# Altium integrated library Analog Devices Data Converters Digital-to-Analog Converters.IntLib: 2231 symbols (part 158 of 181)
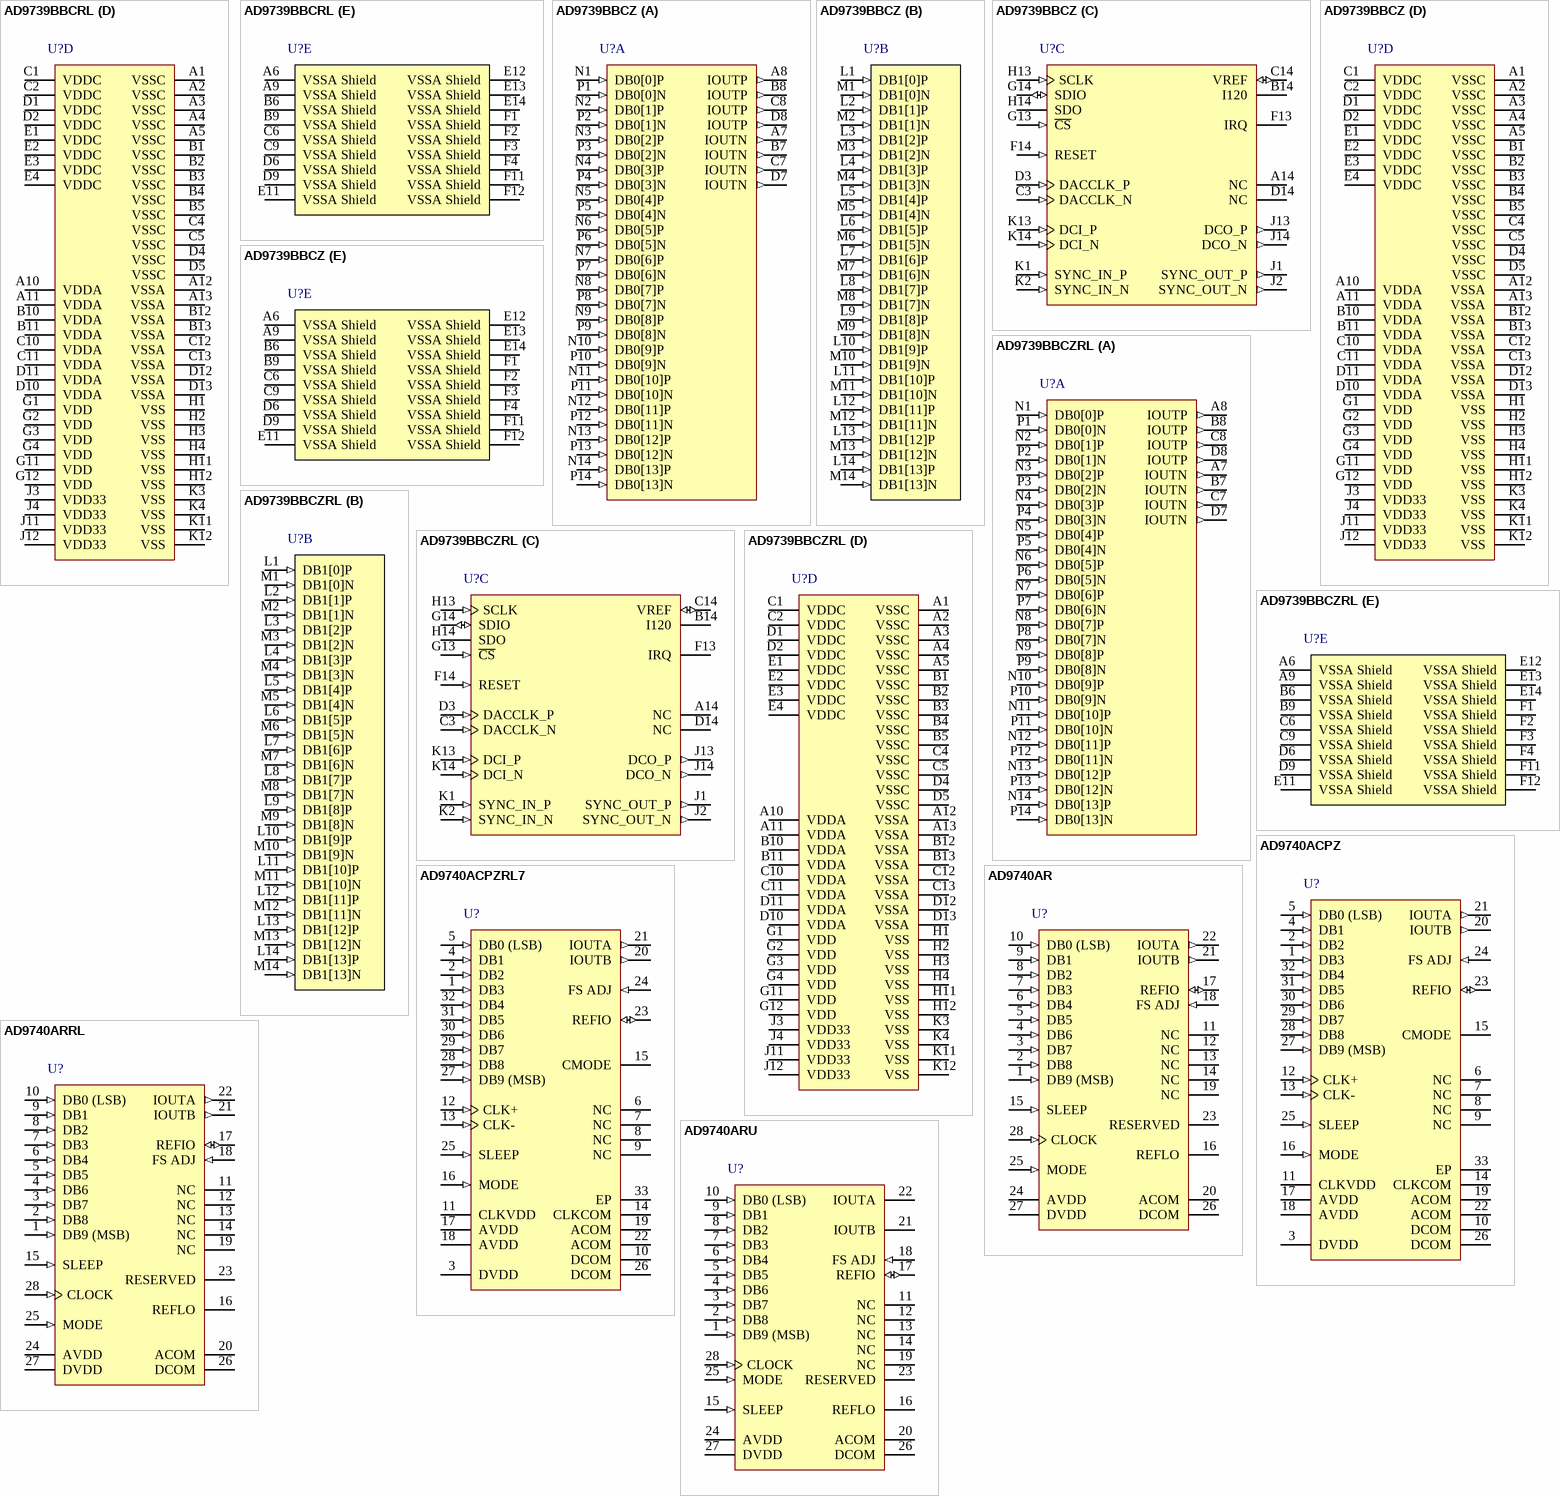
[diagram p271: symbols AD9739BBCRL to AD9740ARU]

## AD9740ACPZ
designator U?
Single 10-Bit TxDAC, 210 Msps, -40 to +85 degC, CP-32-2, Pb-Free, Tray; Generic Part Number: AD9740; Manufacturer: Analog Devices; PartNumber: AD9740ACPZ; # DAC Outputs: 1; Max V+: 3.6V; Op Pwr Diss: 145mW; Resolution (Bits): 10; Settling Time: 11ns; Single Supply: Yes; DatasheetVersion: Rev.B; PackageVersion: Jan-2005; PackageReference: CP-32-2; PackageDescription: 32-Lead Lead Frame Chip Scale Package [LFCSP_VQ] 5 x 5 mm Body, Very Thin Quad; Supplier 1: Digi-Key; Supplier Part Number 1: AD9740ACPZ-ND; Supplier 2: Farnell; Supplier Part Number 2: 2312814; Supplier 3: Newark; Supplier Part Number 3: 59K7335; Supplier 4: Mouser; Supplier Part Number 4: 584-AD9740ACPZ; Packing: Tray; RoHS: Y; Mounting Technology: Surface Mount; Code_JEDEC: MO-220-VHHD-2; ComponentLink1Description: Manufacturer URL; ComponentLink1URL: http://www.analog.com/en/index.html; ComponentLink2Description: Datasheet; ComponentLink2URL: http://www.analog.com/static/imported-files/data_sheets/AD9740.pdf; ComponentLink3Description: Package Specification; ComponentLink3URL: http://www.analog.com/static/imported-files/packages/414143737956480539664569CP_32_2.pdf; ComponentLink4Description: Product URL; ComponentLink4URL: http://www.analog.com/en/digital-to-analog-converters/da-converters/ad9740/products/product.html
footprint CP-32-2_N (QFN, 32-Leads, Body 5x5mm, Pitch 0.5mm, Thermal Pad 3.1x3.1mm, IPC Medium Density)
footprint CP-32-2_L (QFN, 32-Leads, Body 5x5mm, Pitch 0.5mm, Thermal Pad 3.1x3.1mm, IPC High Density)
footprint CP-32-2_M (QFN, 32-Leads, Body 5x5mm, Pitch 0.5mm, Thermal Pad 3.1x3.1mm, IPC Low Density)
pins: 1 DB3 (in) "Data Bit 3", 2 DB2 (in) "Data Bit 2", 3 DVDD (power) "Digital Supply Voltage (3.3 V).", 4 DB1 (in) "Data Bit 1", 5 DB0 (LSB) (in) "Least Significant Data Bit (LSB).", 6 NC "No Internal Connection.", 7 NC "No Internal Connection.", 8 NC "No Internal Connection.", 9 NC "No Internal Connection.", 10 DCOM (power) "Digital Common.", 11 CLKVDD (power) "Clock Supply Voltage (3.3 V).", 12 CLK+ (in) "Differential Clock Input.", 13 CLK- (in) "Differential Clock Input.", 14 CLKCOM (power) "Clock Common.", 15 CMODE "Clock Mode Selection. Connect to CLKCOM for single-ended clock receiver (drive CLK+and float CLK-). Connect to CLKVDD for differential receiver. Float for PECL receiver (terminations on-chip).", 16 MODE (in) "Selects Input Data Format. Connect to DCOM for straight binary, DVDD for twos complement.", 17 AVDD (power) "Analog Supply Voltage (3.3 V).", 18 AVDD (power) "Analog Supply Voltage (3.3 V).", 19 ACOM (power) "Analog Common.", 20 IOUTB (out) "Complementary DAC Current Output. Full-scale current when all data bits are 0s.", 21 IOUTA (out) "DAC Current Output. Full-scale current when all data bits are 1s.", 22 ACOM (power) "Analog Common.", 23 REFIO (io) "Reference Input/Output. Serves as reference input when using external reference.Serves as 1.2 V reference output when using internal reference. Requires 0.1 uF capacitor to ACOM when using internal reference.", 24 FS ADJ (in) "Full-Scale Current Output Adjust.", 25 SLEEP (in) "Power-Down Control Input. Active high. Contains active pull-down circuit; it can be left unterminated if not used.", 26 DCOM (power) "Digital Common.", 27 DB9 (MSB) (in) "Most Significant Data Bit (MSB).", 28 DB8 (in) "Data Bit 8", 29 DB7 (in) "Data Bit 7", 30 DB6 (in) "Data Bit 6", 31 DB5 (in) "Data Bit 5", 32 DB4 (in) "Data Bit 4", 33 EP "Exposed pad."

## AD9740ACPZRL7
designator U?
Single 10-Bit TxDAC, 210 Msps, -40 to +85 degC, CP-32-2, Pb-Free, Reel; Generic Part Number: AD9740; Manufacturer: Analog Devices; PartNumber: AD9740ACPZRL7; # DAC Outputs: 1; Max V+: 3.6V; Op Pwr Diss: 145mW; Resolution (Bits): 10; Settling Time: 11ns; Single Supply: Yes; DatasheetVersion: Rev.B; PackageVersion: Jan-2005; PackageReference: CP-32-2; PackageDescription: 32-Lead Lead Frame Chip Scale Package [LFCSP_VQ] 5 x 5 mm Body, Very Thin Quad; Supplier 1: Digi-Key; Supplier Part Number 1: AD9740ACPZRL7-ND; Supplier 2: Mouser; Supplier Part Number 2: 584-AD9740ACPZR7; Packing: Reel; RoHS: Y; Mounting Technology: Surface Mount; Code_JEDEC: MO-220-VHHD-2; ComponentLink1Description: Manufacturer URL; ComponentLink1URL: http://www.analog.com/en/index.html; ComponentLink2Description: Datasheet; ComponentLink2URL: http://www.analog.com/static/imported-files/data_sheets/AD9740.pdf; ComponentLink3Description: Package Specification; ComponentLink3URL: http://www.analog.com/static/imported-files/packages/414143737956480539664569CP_32_2.pdf; ComponentLink4Description: Product URL; ComponentLink4URL: http://www.analog.com/en/digital-to-analog-converters/da-converters/ad9740/products/product.html
footprint CP-32-2_N (QFN, 32-Leads, Body 5x5mm, Pitch 0.5mm, Thermal Pad 3.1x3.1mm, IPC Medium Density)
footprint CP-32-2_L (QFN, 32-Leads, Body 5x5mm, Pitch 0.5mm, Thermal Pad 3.1x3.1mm, IPC High Density)
footprint CP-32-2_M (QFN, 32-Leads, Body 5x5mm, Pitch 0.5mm, Thermal Pad 3.1x3.1mm, IPC Low Density)
pins: 1 DB3 (in) "Data Bit 3", 2 DB2 (in) "Data Bit 2", 3 DVDD (power) "Digital Supply Voltage (3.3 V).", 4 DB1 (in) "Data Bit 1", 5 DB0 (LSB) (in) "Least Significant Data Bit (LSB).", 6 NC "No Internal Connection.", 7 NC "No Internal Connection.", 8 NC "No Internal Connection.", 9 NC "No Internal Connection.", 10 DCOM (power) "Digital Common.", 11 CLKVDD (power) "Clock Supply Voltage (3.3 V).", 12 CLK+ (in) "Differential Clock Input.", 13 CLK- (in) "Differential Clock Input.", 14 CLKCOM (power) "Clock Common.", 15 CMODE "Clock Mode Selection. Connect to CLKCOM for single-ended clock receiver (drive CLK+and float CLK-). Connect to CLKVDD for differential receiver. Float for PECL receiver (terminations on-chip).", 16 MODE (in) "Selects Input Data Format. Connect to DCOM for straight binary, DVDD for twos complement.", 17 AVDD (power) "Analog Supply Voltage (3.3 V).", 18 AVDD (power) "Analog Supply Voltage (3.3 V).", 19 ACOM (power) "Analog Common.", 20 IOUTB (out) "Complementary DAC Current Output. Full-scale current when all data bits are 0s.", 21 IOUTA (out) "DAC Current Output. Full-scale current when all data bits are 1s.", 22 ACOM (power) "Analog Common.", 23 REFIO (io) "Reference Input/Output. Serves as reference input when using external reference.Serves as 1.2 V reference output when using internal reference. Requires 0.1 uF capacitor to ACOM when using internal reference.", 24 FS ADJ (in) "Full-Scale Current Output Adjust.", 25 SLEEP (in) "Power-Down Control Input. Active high. Contains active pull-down circuit; it can be left unterminated if not used.", 26 DCOM (power) "Digital Common.", 27 DB9 (MSB) (in) "Most Significant Data Bit (MSB).", 28 DB8 (in) "Data Bit 8", 29 DB7 (in) "Data Bit 7", 30 DB6 (in) "Data Bit 6", 31 DB5 (in) "Data Bit 5", 32 DB4 (in) "Data Bit 4", 33 EP "Exposed pad."

## AD9740AR
designator U?
Single 10-Bit TxDAC, 210 Msps, -40 to +85 degC, RW-28, Tube; Generic Part Number: AD9740; Manufacturer: Analog Devices; PartNumber: AD9740AR; # DAC Outputs: 1; Max V+: 3.6V; Op Pwr Diss: 145mW; Resolution (Bits): 10; Settling Time: 11ns; Single Supply: Yes; DatasheetVersion: Rev.B; PackageVersion: 060706-A; PackageReference: RW-28; PackageDescription: 28-Lead Standard Small Outline Package [SOIC_W]; Packing: Tube; RoHS: N; Mounting Technology: Surface Mount; Code_JEDEC: MS-013-AE; ComponentLink1Description: Manufacturer URL; ComponentLink1URL: http://www.analog.com/en/index.html; ComponentLink2Description: Datasheet; ComponentLink2URL: http://www.analog.com/static/imported-files/data_sheets/AD9740.pdf; ComponentLink3Description: Product URL; ComponentLink3URL: http://www.analog.com/en/digital-to-analog-converters/da-converters/ad9740/products/product.html
footprint RW-28_N (SOIC, 28-Leads, Body 17.9x7.5mm, Pitch 1.27mm, IPC Medium Density)
footprint RW-28_L (SOIC, 28-Leads, Body 17.9x7.5mm, Pitch 1.27mm, IPC High Density)
footprint RW-28_M (SOIC, 28-Leads, Body 17.9x7.5mm, Pitch 1.27mm, IPC Low Density)
pins: 1 DB9 (MSB) (in) "Most Significant Data Bit (MSB).", 2 DB8 (in) "Data Bit 8", 3 DB7 (in) "Data Bit 7", 4 DB6 (in) "Data Bit 6", 5 DB5 (in) "Data Bit 5", 6 DB4 (in) "Data Bit 4", 7 DB3 (in) "Data Bit 3", 8 DB2 (in) "Data Bit 2", 9 DB1 (in) "Data Bit 1", 10 DB0 (LSB) (in) "Least Significant Data Bit (LSB).", 11 NC "No Internal Connection.", 12 NC "No Internal Connection.", 13 NC "No Internal Connection.", 14 NC "No Internal Connection.", 15 SLEEP (in) "Power-Down Control Input. Active high. Contains active pull-down circuit; it can be left unterminated if not used.", 16 REFLO "Reference Ground when Internal 1.2 V Reference Used. Connect to ACOM for both internal and external reference operation modes.", 17 REFIO (io) "Reference Input/Output. Serves as reference input when using external reference.Serves as 1.2 V reference output when using internal reference. Requires 0.1 uF capacitor to ACOM when using internal reference.", 18 FS ADJ (in) "Full-Scale Current Output Adjust.", 19 NC "No Internal Connection.", 20 ACOM (power) "Analog Common.", 21 IOUTB (out) "Complementary DAC Current Output. Full-scale current when all data bits are 0s.", 22 IOUTA (out) "DAC Current Output. Full-scale current when all data bits are 1s.", 23 RESERVED "Reserved. Do Not Connect to Common or Supply.", 24 AVDD (power) "Analog Supply Voltage (3.3 V).", 25 MODE (in) "Selects Input Data Format. Connect to DCOM for straight binary, DVDD for twos complement.", 26 DCOM (power) "Digital Common.", 27 DVDD (power) "Digital Supply Voltage (3.3 V).", 28 CLOCK (in) "Clock Input. Data latched on positive edge of clock."

## AD9740ARRL
designator U?
Single 10-Bit TxDAC, 210 Msps, -40 to +85 degC, RW-28, Reel; Generic Part Number: AD9740; Manufacturer: Analog Devices; PartNumber: AD9740ARRL; # DAC Outputs: 1; Max V+: 3.6V; Op Pwr Diss: 145mW; Resolution (Bits): 10; Settling Time: 11ns; Single Supply: Yes; DatasheetVersion: Rev.B; PackageVersion: 060706-A; PackageReference: RW-28; PackageDescription: 28-Lead Standard Small Outline Package [SOIC_W]; Packing: Reel; RoHS: N; Mounting Technology: Surface Mount; Code_JEDEC: MS-013-AE; ComponentLink1Description: Manufacturer URL; ComponentLink1URL: http://www.analog.com/en/index.html; ComponentLink2Description: Datasheet; ComponentLink2URL: http://www.analog.com/static/imported-files/data_sheets/AD9740.pdf; ComponentLink3Description: Product URL; ComponentLink3URL: http://www.analog.com/en/digital-to-analog-converters/da-converters/ad9740/products/product.html
footprint RW-28_N (SOIC, 28-Leads, Body 17.9x7.5mm, Pitch 1.27mm, IPC Medium Density)
footprint RW-28_L (SOIC, 28-Leads, Body 17.9x7.5mm, Pitch 1.27mm, IPC High Density)
footprint RW-28_M (SOIC, 28-Leads, Body 17.9x7.5mm, Pitch 1.27mm, IPC Low Density)
pins: 1 DB9 (MSB) (in) "Most Significant Data Bit (MSB).", 2 DB8 (in) "Data Bit 8", 3 DB7 (in) "Data Bit 7", 4 DB6 (in) "Data Bit 6", 5 DB5 (in) "Data Bit 5", 6 DB4 (in) "Data Bit 4", 7 DB3 (in) "Data Bit 3", 8 DB2 (in) "Data Bit 2", 9 DB1 (in) "Data Bit 1", 10 DB0 (LSB) (in) "Least Significant Data Bit (LSB).", 11 NC "No Internal Connection.", 12 NC "No Internal Connection.", 13 NC "No Internal Connection.", 14 NC "No Internal Connection.", 15 SLEEP (in) "Power-Down Control Input. Active high. Contains active pull-down circuit; it can be left unterminated if not used.", 16 REFLO "Reference Ground when Internal 1.2 V Reference Used. Connect to ACOM for both internal and external reference operation modes.", 17 REFIO (io) "Reference Input/Output. Serves as reference input when using external reference.Serves as 1.2 V reference output when using internal reference. Requires 0.1 uF capacitor to ACOM when using internal reference.", 18 FS ADJ (in) "Full-Scale Current Output Adjust.", 19 NC "No Internal Connection.", 20 ACOM (power) "Analog Common.", 21 IOUTB (out) "Complementary DAC Current Output. Full-scale current when all data bits are 0s.", 22 IOUTA (out) "DAC Current Output. Full-scale current when all data bits are 1s.", 23 RESERVED "Reserved. Do Not Connect to Common or Supply.", 24 AVDD (power) "Analog Supply Voltage (3.3 V).", 25 MODE (in) "Selects Input Data Format. Connect to DCOM for straight binary, DVDD for twos complement.", 26 DCOM (power) "Digital Common.", 27 DVDD (power) "Digital Supply Voltage (3.3 V).", 28 CLOCK (in) "Clock Input. Data latched on positive edge of clock."

## AD9740ARU
designator U?
Single 10-Bit TxDAC, 210 Msps, -40 to +85 degC, RU-28, Tube; Generic Part Number: AD9740; Manufacturer: Analog Devices; PartNumber: AD9740ARU; # DAC Outputs: 1; Max V+: 3.6V; Op Pwr Diss: 145mW; Resolution (Bits): 10; Settling Time: 11ns; Single Supply: Yes; DatasheetVersion: Rev.B; PackageVersion: 2005; PackageReference: RU-28; PackageDescription: 28-Lead Thin Shrink Small Outline Package [TSSOP]; Supplier 1: Digi-Key; Supplier Part Number 1: AD9740ARU-ND; Supplier 2: Mouser; Supplier Part Number 2: 584-AD9740ARU; Packing: Tube; RoHS: N; Mounting Technology: Surface Mount; Code_JEDEC: MO-153-AE; ComponentLink1Description: Manufacturer URL; ComponentLink1URL: http://www.analog.com/en/index.html; ComponentLink2Description: Datasheet; ComponentLink2URL: http://www.analog.com/static/imported-files/data_sheets/AD9740.pdf; ComponentLink3Description: Package Specification; ComponentLink3URL: http://www.analog.com/static/imported-files/packages/249854663RU_28.pdf; ComponentLink4Description: Product URL; ComponentLink4URL: http://www.analog.com/en/digital-to-analog-converters/da-converters/ad9740/products/product.html
footprint RU-28_N (TSOP, 28-Leads, Body 9.7x4.4mm, Pitch 0.65mm, IPC Medium Density)
footprint RU-28_L (TSOP, 28-Leads, Body 9.7x4.4mm, Pitch 0.65mm, IPC High Density)
footprint RU-28_M (TSOP, 28-Leads, Body 9.7x4.4mm, Pitch 0.65mm, IPC Low Density)
pins: 1 DB9 (MSB) (in) "Most Significant Data Bit (MSB).", 2 DB8 (in) "Data Bit 8", 3 DB7 (in) "Data Bit 7", 4 DB6 (in) "Data Bit 6", 5 DB5 (in) "Data Bit 5", 6 DB4 (in) "Data Bit 4", 7 DB3 (in) "Data Bit 3", 8 DB2 (in) "Data Bit 2", 9 DB1 (in) "Data Bit 1", 10 DB0 (LSB) (in) "Least Significant Data Bit (LSB).", 11 NC "No Internal Connection.", 12 NC "No Internal Connection.", 13 NC "No Internal Connection.", 14 NC "No Internal Connection.", 15 SLEEP (in) "Power-Down Control Input. Active high. Contains active pull-down circuit; it can be left unterminated if not used.", 16 REFLO "Reference Ground when Internal 1.2 V Reference Used. Connect to ACOM for both internal and external reference operation modes.", 17 REFIO (io) "Reference Input/Output. Serves as reference input when using external reference.Serves as 1.2 V reference output when using internal reference. Requires 0.1 uF capacitor to ACOM when using internal reference.", 18 FS ADJ (in) "Full-Scale Current Output Adjust.", 19 NC "No Internal Connection.", 20 ACOM (power) "Analog Common.", 21 IOUTB "Complementary DAC Current Output. Full-scale current when all data bits are 0s.", 22 IOUTA (hiz) "DAC Current Output. Full-scale current when all data bits are 1s.", 23 RESERVED "Reserved. Do Not Connect to Common or Supply.", 24 AVDD (power) "Analog Supply Voltage (3.3 V).", 25 MODE (in) "Selects Input Data Format. Connect to DCOM for straight binary, DVDD for twos complement.", 26 DCOM (power) "Digital Common.", 27 DVDD (power) "Digital Supply Voltage (3.3 V).", 28 CLOCK (in) "Clock Input. Data latched on positive edge of clock."

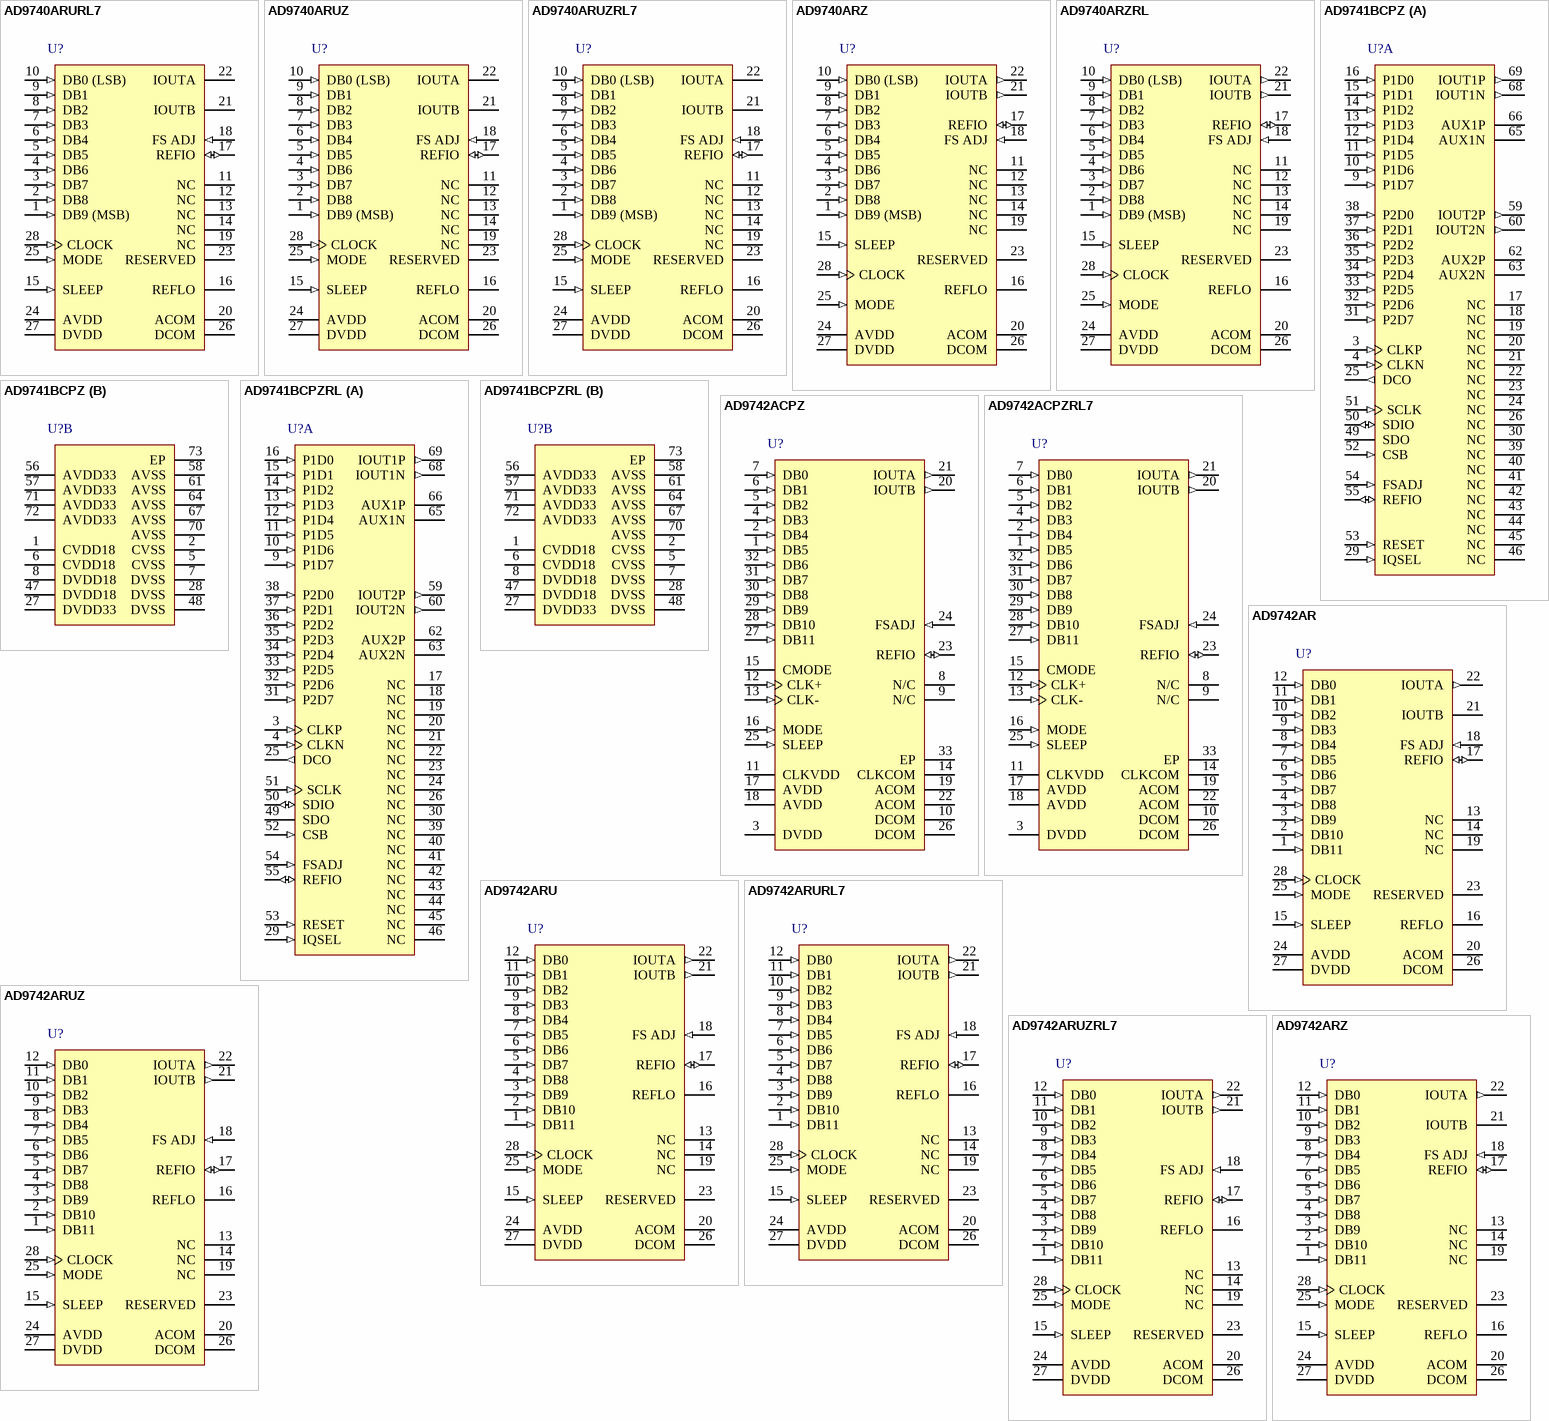
[diagram p94: symbols AD9740ARURL7 to AD9742ARZ]

## AD9740ARURL7
designator U?
Single 10-Bit TxDAC, 210 Msps, -40 to +85 degC, RU-28, Reel; Generic Part Number: AD9740; Manufacturer: Analog Devices; PartNumber: AD9740ARURL7; # DAC Outputs: 1; Max V+: 3.6V; Op Pwr Diss: 145mW; Resolution (Bits): 10; Settling Time: 11ns; Single Supply: Yes; DatasheetVersion: Rev.B; PackageVersion: 2005; PackageReference: RU-28; PackageDescription: 28-Lead Thin Shrink Small Outline Package [TSSOP]; Supplier 1: Digi-Key; Supplier Part Number 1: AD9740ARURL7-ND; Supplier 2: Mouser; Supplier Part Number 2: 584-AD9740ARUR7; Packing: Reel; RoHS: N; Mounting Technology: Surface Mount; Code_JEDEC: MO-153-AE; ComponentLink1Description: Manufacturer URL; ComponentLink1URL: http://www.analog.com/en/index.html; ComponentLink2Description: Datasheet; ComponentLink2URL: http://www.analog.com/static/imported-files/data_sheets/AD9740.pdf; ComponentLink3Description: Package Specification; ComponentLink3URL: http://www.analog.com/static/imported-files/packages/249854663RU_28.pdf; ComponentLink4Description: Product URL; ComponentLink4URL: http://www.analog.com/en/digital-to-analog-converters/da-converters/ad9740/products/product.html
footprint RU-28_N (TSOP, 28-Leads, Body 9.7x4.4mm, Pitch 0.65mm, IPC Medium Density)
footprint RU-28_L (TSOP, 28-Leads, Body 9.7x4.4mm, Pitch 0.65mm, IPC High Density)
footprint RU-28_M (TSOP, 28-Leads, Body 9.7x4.4mm, Pitch 0.65mm, IPC Low Density)
pins: 1 DB9 (MSB) (in) "Most Significant Data Bit (MSB).", 2 DB8 (in) "Data Bit 8", 3 DB7 (in) "Data Bit 7", 4 DB6 (in) "Data Bit 6", 5 DB5 (in) "Data Bit 5", 6 DB4 (in) "Data Bit 4", 7 DB3 (in) "Data Bit 3", 8 DB2 (in) "Data Bit 2", 9 DB1 (in) "Data Bit 1", 10 DB0 (LSB) (in) "Least Significant Data Bit (LSB).", 11 NC "No Internal Connection.", 12 NC "No Internal Connection.", 13 NC "No Internal Connection.", 14 NC "No Internal Connection.", 15 SLEEP (in) "Power-Down Control Input. Active high. Contains active pull-down circuit; it can be left unterminated if not used.", 16 REFLO "Reference Ground when Internal 1.2 V Reference Used. Connect to ACOM for both internal and external reference operation modes.", 17 REFIO (io) "Reference Input/Output. Serves as reference input when using external reference.Serves as 1.2 V reference output when using internal reference. Requires 0.1 uF capacitor to ACOM when using internal reference.", 18 FS ADJ (in) "Full-Scale Current Output Adjust.", 19 NC "No Internal Connection.", 20 ACOM (power) "Analog Common.", 21 IOUTB "Complementary DAC Current Output. Full-scale current when all data bits are 0s.", 22 IOUTA (hiz) "DAC Current Output. Full-scale current when all data bits are 1s.", 23 RESERVED "Reserved. Do Not Connect to Common or Supply.", 24 AVDD (power) "Analog Supply Voltage (3.3 V).", 25 MODE (in) "Selects Input Data Format. Connect to DCOM for straight binary, DVDD for twos complement.", 26 DCOM (power) "Digital Common.", 27 DVDD (power) "Digital Supply Voltage (3.3 V).", 28 CLOCK (in) "Clock Input. Data latched on positive edge of clock."

## AD9740ARUZ
designator U?
Single 10-Bit TxDAC, 210 Msps, -40 to +85 degC, RU-28, Pb-Free, Tube; Generic Part Number: AD9740; Manufacturer: Analog Devices; PartNumber: AD9740ARUZ; # DAC Outputs: 1; Max V+: 3.6V; Op Pwr Diss: 145mW; Resolution (Bits): 10; Settling Time: 11ns; Single Supply: Yes; DatasheetVersion: Rev.B; PackageVersion: 2005; PackageReference: RU-28; PackageDescription: 28-Lead Thin Shrink Small Outline Package [TSSOP]; Supplier 1: Digi-Key; Supplier Part Number 1: AD9740ARUZ-ND; Supplier 2: Newark; Supplier Part Number 2: 59K7337; Supplier 3: Mouser; Supplier Part Number 3: 584-AD9740ARUZ; Packing: Tube; RoHS: Y; Mounting Technology: Surface Mount; Code_JEDEC: MO-153-AE; ComponentLink1Description: Manufacturer URL; ComponentLink1URL: http://www.analog.com/en/index.html; ComponentLink2Description: Datasheet; ComponentLink2URL: http://www.analog.com/static/imported-files/data_sheets/AD9740.pdf; ComponentLink3Description: Package Specification; ComponentLink3URL: http://www.analog.com/static/imported-files/packages/249854663RU_28.pdf; ComponentLink4Description: Product URL; ComponentLink4URL: http://www.analog.com/en/digital-to-analog-converters/da-converters/ad9740/products/product.html
footprint RU-28_N (TSOP, 28-Leads, Body 9.7x4.4mm, Pitch 0.65mm, IPC Medium Density)
footprint RU-28_L (TSOP, 28-Leads, Body 9.7x4.4mm, Pitch 0.65mm, IPC High Density)
footprint RU-28_M (TSOP, 28-Leads, Body 9.7x4.4mm, Pitch 0.65mm, IPC Low Density)
pins: 1 DB9 (MSB) (in) "Most Significant Data Bit (MSB).", 2 DB8 (in) "Data Bit 8", 3 DB7 (in) "Data Bit 7", 4 DB6 (in) "Data Bit 6", 5 DB5 (in) "Data Bit 5", 6 DB4 (in) "Data Bit 4", 7 DB3 (in) "Data Bit 3", 8 DB2 (in) "Data Bit 2", 9 DB1 (in) "Data Bit 1", 10 DB0 (LSB) (in) "Least Significant Data Bit (LSB).", 11 NC "No Internal Connection.", 12 NC "No Internal Connection.", 13 NC "No Internal Connection.", 14 NC "No Internal Connection.", 15 SLEEP (in) "Power-Down Control Input. Active high. Contains active pull-down circuit; it can be left unterminated if not used.", 16 REFLO "Reference Ground when Internal 1.2 V Reference Used. Connect to ACOM for both internal and external reference operation modes.", 17 REFIO (io) "Reference Input/Output. Serves as reference input when using external reference.Serves as 1.2 V reference output when using internal reference. Requires 0.1 uF capacitor to ACOM when using internal reference.", 18 FS ADJ (in) "Full-Scale Current Output Adjust.", 19 NC "No Internal Connection.", 20 ACOM (power) "Analog Common.", 21 IOUTB "Complementary DAC Current Output. Full-scale current when all data bits are 0s.", 22 IOUTA (hiz) "DAC Current Output. Full-scale current when all data bits are 1s.", 23 RESERVED "Reserved. Do Not Connect to Common or Supply.", 24 AVDD (power) "Analog Supply Voltage (3.3 V).", 25 MODE (in) "Selects Input Data Format. Connect to DCOM for straight binary, DVDD for twos complement.", 26 DCOM (power) "Digital Common.", 27 DVDD (power) "Digital Supply Voltage (3.3 V).", 28 CLOCK (in) "Clock Input. Data latched on positive edge of clock."

## AD9740ARUZRL7
designator U?
Single 10-Bit TxDAC, 210 Msps, -40 to +85 degC, RU-28, Pb-Free, Reel; Generic Part Number: AD9740; Manufacturer: Analog Devices; PartNumber: AD9740ARUZRL7; # DAC Outputs: 1; Max V+: 3.6V; Op Pwr Diss: 145mW; Resolution (Bits): 10; Settling Time: 11ns; Single Supply: Yes; DatasheetVersion: Rev.B; PackageVersion: 2005; PackageReference: RU-28; PackageDescription: 28-Lead Thin Shrink Small Outline Package [TSSOP]; Supplier 1: Digi-Key; Supplier Part Number 1: AD9740ARUZRL7-ND; Supplier 2: Newark; Supplier Part Number 2: 59K7338; Supplier 3: Mouser; Supplier Part Number 3: 584-AD9740ARUZR7; Packing: Reel; RoHS: Y; Mounting Technology: Surface Mount; Code_JEDEC: MO-153-AE; ComponentLink1Description: Manufacturer URL; ComponentLink1URL: http://www.analog.com/en/index.html; ComponentLink2Description: Datasheet; ComponentLink2URL: http://www.analog.com/static/imported-files/data_sheets/AD9740.pdf; ComponentLink3Description: Package Specification; ComponentLink3URL: http://www.analog.com/static/imported-files/packages/249854663RU_28.pdf; ComponentLink4Description: Product URL; ComponentLink4URL: http://www.analog.com/en/digital-to-analog-converters/da-converters/ad9740/products/product.html
footprint RU-28_N (TSOP, 28-Leads, Body 9.7x4.4mm, Pitch 0.65mm, IPC Medium Density)
footprint RU-28_L (TSOP, 28-Leads, Body 9.7x4.4mm, Pitch 0.65mm, IPC High Density)
footprint RU-28_M (TSOP, 28-Leads, Body 9.7x4.4mm, Pitch 0.65mm, IPC Low Density)
pins: 1 DB9 (MSB) (in) "Most Significant Data Bit (MSB).", 2 DB8 (in) "Data Bit 8", 3 DB7 (in) "Data Bit 7", 4 DB6 (in) "Data Bit 6", 5 DB5 (in) "Data Bit 5", 6 DB4 (in) "Data Bit 4", 7 DB3 (in) "Data Bit 3", 8 DB2 (in) "Data Bit 2", 9 DB1 (in) "Data Bit 1", 10 DB0 (LSB) (in) "Least Significant Data Bit (LSB).", 11 NC "No Internal Connection.", 12 NC "No Internal Connection.", 13 NC "No Internal Connection.", 14 NC "No Internal Connection.", 15 SLEEP (in) "Power-Down Control Input. Active high. Contains active pull-down circuit; it can be left unterminated if not used.", 16 REFLO "Reference Ground when Internal 1.2 V Reference Used. Connect to ACOM for both internal and external reference operation modes.", 17 REFIO (io) "Reference Input/Output. Serves as reference input when using external reference.Serves as 1.2 V reference output when using internal reference. Requires 0.1 uF capacitor to ACOM when using internal reference.", 18 FS ADJ (in) "Full-Scale Current Output Adjust.", 19 NC "No Internal Connection.", 20 ACOM (power) "Analog Common.", 21 IOUTB "Complementary DAC Current Output. Full-scale current when all data bits are 0s.", 22 IOUTA (hiz) "DAC Current Output. Full-scale current when all data bits are 1s.", 23 RESERVED "Reserved. Do Not Connect to Common or Supply.", 24 AVDD (power) "Analog Supply Voltage (3.3 V).", 25 MODE (in) "Selects Input Data Format. Connect to DCOM for straight binary, DVDD for twos complement.", 26 DCOM (power) "Digital Common.", 27 DVDD (power) "Digital Supply Voltage (3.3 V).", 28 CLOCK (in) "Clock Input. Data latched on positive edge of clock."

## AD9740ARZ
designator U?
Single 10-Bit TxDAC, 210 Msps, -40 to +85 degC, RW-28, Pb-Free, Tube; Generic Part Number: AD9740; Manufacturer: Analog Devices; PartNumber: AD9740ARZ; # DAC Outputs: 1; Max V+: 3.6V; Op Pwr Diss: 145mW; Resolution (Bits): 10; Settling Time: 11ns; Single Supply: Yes; DatasheetVersion: Rev.B; PackageVersion: 060706-A; PackageReference: RW-28; PackageDescription: 28-Lead Standard Small Outline Package [SOIC_W]; Supplier 1: Digi-Key; Supplier Part Number 1: AD9740ARZ-ND; Supplier 2: Mouser; Supplier Part Number 2: 584-AD9740ARZ; Packing: Tube; RoHS: Y; Mounting Technology: Surface Mount; Code_JEDEC: MS-013-AE; ComponentLink1Description: Manufacturer URL; ComponentLink1URL: http://www.analog.com/en/index.html; ComponentLink2Description: Datasheet; ComponentLink2URL: http://www.analog.com/static/imported-files/data_sheets/AD9740.pdf; ComponentLink3Description: Product URL; ComponentLink3URL: http://www.analog.com/en/digital-to-analog-converters/da-converters/ad9740/products/product.html
footprint RW-28_N (SOIC, 28-Leads, Body 17.9x7.5mm, Pitch 1.27mm, IPC Medium Density)
footprint RW-28_L (SOIC, 28-Leads, Body 17.9x7.5mm, Pitch 1.27mm, IPC High Density)
footprint RW-28_M (SOIC, 28-Leads, Body 17.9x7.5mm, Pitch 1.27mm, IPC Low Density)
pins: 1 DB9 (MSB) (in) "Most Significant Data Bit (MSB).", 2 DB8 (in) "Data Bit 8", 3 DB7 (in) "Data Bit 7", 4 DB6 (in) "Data Bit 6", 5 DB5 (in) "Data Bit 5", 6 DB4 (in) "Data Bit 4", 7 DB3 (in) "Data Bit 3", 8 DB2 (in) "Data Bit 2", 9 DB1 (in) "Data Bit 1", 10 DB0 (LSB) (in) "Least Significant Data Bit (LSB).", 11 NC "No Internal Connection.", 12 NC "No Internal Connection.", 13 NC "No Internal Connection.", 14 NC "No Internal Connection.", 15 SLEEP (in) "Power-Down Control Input. Active high. Contains active pull-down circuit; it can be left unterminated if not used.", 16 REFLO "Reference Ground when Internal 1.2 V Reference Used. Connect to ACOM for both internal and external reference operation modes.", 17 REFIO (io) "Reference Input/Output. Serves as reference input when using external reference.Serves as 1.2 V reference output when using internal reference. Requires 0.1 uF capacitor to ACOM when using internal reference.", 18 FS ADJ (in) "Full-Scale Current Output Adjust.", 19 NC "No Internal Connection.", 20 ACOM (power) "Analog Common.", 21 IOUTB (out) "Complementary DAC Current Output. Full-scale current when all data bits are 0s.", 22 IOUTA (out) "DAC Current Output. Full-scale current when all data bits are 1s.", 23 RESERVED "Reserved. Do Not Connect to Common or Supply.", 24 AVDD (power) "Analog Supply Voltage (3.3 V).", 25 MODE (in) "Selects Input Data Format. Connect to DCOM for straight binary, DVDD for twos complement.", 26 DCOM (power) "Digital Common.", 27 DVDD (power) "Digital Supply Voltage (3.3 V).", 28 CLOCK (in) "Clock Input. Data latched on positive edge of clock."

## AD9740ARZRL
designator U?
Single 10-Bit TxDAC, 210 Msps, -40 to +85 degC, RW-28, Pb-Free, Reel; Generic Part Number: AD9740; Manufacturer: Analog Devices; PartNumber: AD9740ARZRL; # DAC Outputs: 1; Max V+: 3.6V; Op Pwr Diss: 145mW; Resolution (Bits): 10; Settling Time: 11ns; Single Supply: Yes; DatasheetVersion: Rev.B; PackageVersion: 060706-A; PackageReference: RW-28; PackageDescription: 28-Lead Standard Small Outline Package [SOIC_W]; Supplier 1: Digi-Key; Supplier Part Number 1: AD9740ARZRL-ND; Supplier 2: Mouser; Supplier Part Number 2: 584-AD9740ARZR; Packing: Reel; RoHS: Y; Mounting Technology: Surface Mount; Code_JEDEC: MS-013-AE; ComponentLink1Description: Manufacturer URL; ComponentLink1URL: http://www.analog.com/en/index.html; ComponentLink2Description: Datasheet; ComponentLink2URL: http://www.analog.com/static/imported-files/data_sheets/AD9740.pdf; ComponentLink3Description: Product URL; ComponentLink3URL: http://www.analog.com/en/digital-to-analog-converters/da-converters/ad9740/products/product.html
footprint RW-28_N (SOIC, 28-Leads, Body 17.9x7.5mm, Pitch 1.27mm, IPC Medium Density)
footprint RW-28_L (SOIC, 28-Leads, Body 17.9x7.5mm, Pitch 1.27mm, IPC High Density)
footprint RW-28_M (SOIC, 28-Leads, Body 17.9x7.5mm, Pitch 1.27mm, IPC Low Density)
pins: 1 DB9 (MSB) (in) "Most Significant Data Bit (MSB).", 2 DB8 (in) "Data Bit 8", 3 DB7 (in) "Data Bit 7", 4 DB6 (in) "Data Bit 6", 5 DB5 (in) "Data Bit 5", 6 DB4 (in) "Data Bit 4", 7 DB3 (in) "Data Bit 3", 8 DB2 (in) "Data Bit 2", 9 DB1 (in) "Data Bit 1", 10 DB0 (LSB) (in) "Least Significant Data Bit (LSB).", 11 NC "No Internal Connection.", 12 NC "No Internal Connection.", 13 NC "No Internal Connection.", 14 NC "No Internal Connection.", 15 SLEEP (in) "Power-Down Control Input. Active high. Contains active pull-down circuit; it can be left unterminated if not used.", 16 REFLO "Reference Ground when Internal 1.2 V Reference Used. Connect to ACOM for both internal and external reference operation modes.", 17 REFIO (io) "Reference Input/Output. Serves as reference input when using external reference.Serves as 1.2 V reference output when using internal reference. Requires 0.1 uF capacitor to ACOM when using internal reference.", 18 FS ADJ (in) "Full-Scale Current Output Adjust.", 19 NC "No Internal Connection.", 20 ACOM (power) "Analog Common.", 21 IOUTB (out) "Complementary DAC Current Output. Full-scale current when all data bits are 0s.", 22 IOUTA (out) "DAC Current Output. Full-scale current when all data bits are 1s.", 23 RESERVED "Reserved. Do Not Connect to Common or Supply.", 24 AVDD (power) "Analog Supply Voltage (3.3 V).", 25 MODE (in) "Selects Input Data Format. Connect to DCOM for straight binary, DVDD for twos complement.", 26 DCOM (power) "Digital Common.", 27 DVDD (power) "Digital Supply Voltage (3.3 V).", 28 CLOCK (in) "Clock Input. Data latched on positive edge of clock."

## AD9741BCPZ
designator U?
Dual 8-Bit Digital-to-Analog Converter, 250 Msps, -40 to +85 degC, CP-72-1, Pb-Free, Tray; Generic Part Number: AD9741; Manufacturer: Analog Devices; PartNumber: AD9741BCPZ; # DAC Outputs: 2; Max V+: 3.47V; Op Pwr Diss: 345mW; Resolution (Bits): 8; Single Supply: No; DatasheetVersion: Rev.0; PackageVersion: 06-07-2012-A; PackageReference: CP-72-1; PackageDescription: 72-Lead Lead Frame Chip Scale Package [LFCSP_VQ] 10 x 10 mm Body, Very Thin Quad; Supplier 1: Digi-Key; Supplier Part Number 1: AD9741BCPZ-ND; Supplier 2: Farnell; Supplier Part Number 2: 1438930; Supplier 3: Mouser; Supplier Part Number 3: 584-AD9741BCPZ; Packing: Tray; RoHS: Y; Mounting Technology: Surface Mount; Code_JEDEC: MO-220-VNND-4; ComponentLink1Description: Manufacturer URL; ComponentLink1URL: http://www.analog.com/en/index.html; ComponentLink2Description: Datasheet; ComponentLink2URL: http://www.analog.com/static/imported-files/data_sheets/AD9741_9743_9745_9746_9747.pdf; ComponentLink3Description: Package Specification; ComponentLink3URL: http://www.analog.com/static/imported-files/packages/CP_72_1.pdf; ComponentLink4Description: Product URL; ComponentLink4URL: http://www.analog.com/en/digital-to-analog-converters/da-converters/ad9741/products/product.html
footprint CP-72-1_N (QFN, 72-Leads, Body 10x10mm, Pitch 0.5mm, Thermal Pad 4.7x4.7mm, IPC Medium Density)
footprint CP-72-1_L (QFN, 72-Leads, Body 10x10mm, Pitch 0.5mm, Thermal Pad 4.7x4.7mm, IPC High Density)
footprint CP-72-1_M (QFN, 72-Leads, Body 10x10mm, Pitch 0.5mm, Thermal Pad 4.7x4.7mm, IPC Low Density)
part A pins: 3 CLKP (in) "Differential DAC Clock Input.", 4 CLKN (in) "Complementary Differential DAC Clock Input.", 9 P1D7 (in) "Port 1 Data Bit Input.", 10 P1D6 (in) "Port 1 Data Bit Input.", 11 P1D5 (in) "Port 1 Data Bit Input.", 12 P1D4 (in) "Port 1 Data Bit Input.", 13 P1D3 (in) "Port 1 Data Bit Input.", 14 P1D2 (in) "Port 1 Data Bit Input.", 15 P1D1 (in) "Port 1 Data Bit Input.", 16 P1D0 (in) "Port 1 Data Bit Input.", 17 NC "No Connect.", 18 NC "No Connect.", 19 NC "No Connect.", 20 NC "No Connect.", 21 NC "No Connect.", 22 NC "No Connect.", 23 NC "No Connect.", 24 NC "No Connect.", 25 DCO (out) "Data Clock Output. Use to clock data source.", 26 NC "No Connect.", 29 IQSEL (in) "I/Q Framing Signal for Single-Port Mode Operation.", 30 NC "No Connect.", 31 P2D7 (in) "Port 2 Data Bit Input.", 32 P2D6 (in) "Port 2 Data Bit Input.", 33 P2D5 (in) "Port 2 Data Bit Input.", 34 P2D4 (in) "Port 2 Data Bit Input.", 35 P2D3 (in) "Port 2 Data Bit Input.", 36 P2D2 (in) "Port 2 Data Bit Input.", 37 P2D1 (in) "Port 2 Data Bit Input.", 38 P2D0 (in) "Port 2 Data Bit Input.", 39 NC "No Connect.", 40 NC "No Connect.", 41 NC "No Connect.", 42 NC "No Connect.", 43 NC "No Connect.", 44 NC "No Connect.", 45 NC "No Connect.", 46 NC "No Connect.", 49 SDO (hiz) "Serial Peripheral Interface Data Output.", 50 SDIO (io) "Serial Peripheral Interface Data Input and Optional Data Output.", 51 SCLK (in) "Serial Peripheral Interface Clock Input.", 52 CSB (in) "Serial Peripheral Interface Chip Select Input. Active low.", 53 RESET (in) "Hardware Reset. Active high.", 54 FSADJ (in) "Full-Scale Current Output Adjust. Connect a 10 kohm resistor to AVSS.", 55 REFIO (io) "Reference Input/Output. Connect a 0.1 uF capacitor to AVSS.", 59 IOUT2P (out) "DAC2 Current Output. Sources full-scale current when input data bits are all 1.", 60 IOUT2N (out) "Complementary DAC2 Current Output. Sources full-scale current when data bits are all 0.", 62 AUX2P (hiz) "Auxiliary DAC2 Default Current Output Pin.", 63 AUX2N (hiz) "Auxiliary DAC2 Optional Output Pin. Enable through SPI.", 65 AUX1N (hiz) "Auxiliary DAC1 Optional Output Pin. Enable through SPI.", 66 AUX1P (hiz) "Auxiliary DAC1 Default Current Output Pin.", 68 IOUT1N (out) "Complementary DAC1 Current Output. Sources full-scale current when data bits are all 0.", 69 IOUT1P (out) "DAC1 Current Output. Sources full-scale current when data bits are all 1."
part B pins: 1 CVDD18 (power) "Clock Supply Voltage (1.8 V).", 2 CVSS (power) "Clock Supply Common (0 V).", 5 CVSS (power) "Clock Supply Common (0 V).", 6 CVDD18 (power) "Clock Supply Voltage (1.8 V).", 7 DVSS (power) "Digital Supply Common (0 V).", 8 DVDD18 (power) "Digital Core Supply Voltage (1.8 V).", 27 DVDD33 (power) "Digital I/O Supply Voltage (3.3 V).", 28 DVSS (power) "Digital Supply Common (0 V).", 47 DVDD18 (power) "Digital Core Supply Voltage (1.8 V).", 48 DVSS (power) "Digital Supply Common (0 V).", 56 AVDD33 (power) "Analog Supply Voltage (3.3 V).", 57 AVDD33 (power) "Analog Supply Voltage (3.3 V).", 58 AVSS (power) "Analog Supply Common (0 V).", 61 AVSS (power) "Analog Supply Common (0 V).", 64 AVSS (power) "Analog Supply Common (0 V).", 67 AVSS (power) "Analog Supply Common (0 V).", 70 AVSS (power) "Analog Supply Common (0 V).", 71 AVDD33 (power) "Analog Supply Voltage (3.3 V).", 72 AVDD33 (power) "Analog Supply Voltage (3.3 V).", 73 EP (power) "Exposed Thermal Pad. Must be soldered to copper pour on top surface of PCB for mechanical stability and must be electrically tied to low impedance GND plane for low noise performance."

## AD9741BCPZRL
designator U?
Dual 8-Bit Digital-to-Analog Converter, 250 Msps, -40 to +85 degC, CP-72-1, Pb-Free, Reel; Generic Part Number: AD9741; Manufacturer: Analog Devices; PartNumber: AD9741BCPZRL; # DAC Outputs: 2; Max V+: 3.47V; Op Pwr Diss: 345mW; Resolution (Bits): 8; Single Supply: No; DatasheetVersion: Rev.0; PackageVersion: 06-07-2012-A; PackageReference: CP-72-1; PackageDescription: 72-Lead Lead Frame Chip Scale Package [LFCSP_VQ] 10 x 10 mm Body, Very Thin Quad; Supplier 1: Digi-Key; Supplier Part Number 1: AD9741BCPZRL-ND; Supplier 2: Mouser; Supplier Part Number 2: 584-AD9741BCPZR; Packing: Reel; RoHS: Y; Mounting Technology: Surface Mount; Code_JEDEC: MO-220-VNND-4; ComponentLink1Description: Manufacturer URL; ComponentLink1URL: http://www.analog.com/en/index.html; ComponentLink2Description: Datasheet; ComponentLink2URL: http://www.analog.com/static/imported-files/data_sheets/AD9741_9743_9745_9746_9747.pdf; ComponentLink3Description: Package Specification; ComponentLink3URL: http://www.analog.com/static/imported-files/packages/CP_72_1.pdf; ComponentLink4Description: Product URL; ComponentLink4URL: http://www.analog.com/en/digital-to-analog-converters/da-converters/ad9741/products/product.html
footprint CP-72-1_N (QFN, 72-Leads, Body 10x10mm, Pitch 0.5mm, Thermal Pad 4.7x4.7mm, IPC Medium Density)
footprint CP-72-1_L (QFN, 72-Leads, Body 10x10mm, Pitch 0.5mm, Thermal Pad 4.7x4.7mm, IPC High Density)
footprint CP-72-1_M (QFN, 72-Leads, Body 10x10mm, Pitch 0.5mm, Thermal Pad 4.7x4.7mm, IPC Low Density)
part A pins: 3 CLKP (in) "Differential DAC Clock Input.", 4 CLKN (in) "Complementary Differential DAC Clock Input.", 9 P1D7 (in) "Port 1 Data Bit Input.", 10 P1D6 (in) "Port 1 Data Bit Input.", 11 P1D5 (in) "Port 1 Data Bit Input.", 12 P1D4 (in) "Port 1 Data Bit Input.", 13 P1D3 (in) "Port 1 Data Bit Input.", 14 P1D2 (in) "Port 1 Data Bit Input.", 15 P1D1 (in) "Port 1 Data Bit Input.", 16 P1D0 (in) "Port 1 Data Bit Input.", 17 NC "No Connect.", 18 NC "No Connect.", 19 NC "No Connect.", 20 NC "No Connect.", 21 NC "No Connect.", 22 NC "No Connect.", 23 NC "No Connect.", 24 NC "No Connect.", 25 DCO (out) "Data Clock Output. Use to clock data source.", 26 NC "No Connect.", 29 IQSEL (in) "I/Q Framing Signal for Single-Port Mode Operation.", 30 NC "No Connect.", 31 P2D7 (in) "Port 2 Data Bit Input.", 32 P2D6 (in) "Port 2 Data Bit Input.", 33 P2D5 (in) "Port 2 Data Bit Input.", 34 P2D4 (in) "Port 2 Data Bit Input.", 35 P2D3 (in) "Port 2 Data Bit Input.", 36 P2D2 (in) "Port 2 Data Bit Input.", 37 P2D1 (in) "Port 2 Data Bit Input.", 38 P2D0 (in) "Port 2 Data Bit Input.", 39 NC "No Connect.", 40 NC "No Connect.", 41 NC "No Connect.", 42 NC "No Connect.", 43 NC "No Connect.", 44 NC "No Connect.", 45 NC "No Connect.", 46 NC "No Connect.", 49 SDO (hiz) "Serial Peripheral Interface Data Output.", 50 SDIO (io) "Serial Peripheral Interface Data Input and Optional Data Output.", 51 SCLK (in) "Serial Peripheral Interface Clock Input.", 52 CSB (in) "Serial Peripheral Interface Chip Select Input. Active low.", 53 RESET (in) "Hardware Reset. Active high.", 54 FSADJ (in) "Full-Scale Current Output Adjust. Connect a 10 kohm resistor to AVSS.", 55 REFIO (io) "Reference Input/Output. Connect a 0.1 uF capacitor to AVSS.", 59 IOUT2P (out) "DAC2 Current Output. Sources full-scale current when input data bits are all 1.", 60 IOUT2N (out) "Complementary DAC2 Current Output. Sources full-scale current when data bits are all 0.", 62 AUX2P (hiz) "Auxiliary DAC2 Default Current Output Pin.", 63 AUX2N (hiz) "Auxiliary DAC2 Optional Output Pin. Enable through SPI.", 65 AUX1N (hiz) "Auxiliary DAC1 Optional Output Pin. Enable through SPI.", 66 AUX1P (hiz) "Auxiliary DAC1 Default Current Output Pin.", 68 IOUT1N (out) "Complementary DAC1 Current Output. Sources full-scale current when data bits are all 0.", 69 IOUT1P (out) "DAC1 Current Output. Sources full-scale current when data bits are all 1."
part B pins: 1 CVDD18 (power) "Clock Supply Voltage (1.8 V).", 2 CVSS (power) "Clock Supply Common (0 V).", 5 CVSS (power) "Clock Supply Common (0 V).", 6 CVDD18 (power) "Clock Supply Voltage (1.8 V).", 7 DVSS (power) "Digital Supply Common (0 V).", 8 DVDD18 (power) "Digital Core Supply Voltage (1.8 V).", 27 DVDD33 (power) "Digital I/O Supply Voltage (3.3 V).", 28 DVSS (power) "Digital Supply Common (0 V).", 47 DVDD18 (power) "Digital Core Supply Voltage (1.8 V).", 48 DVSS (power) "Digital Supply Common (0 V).", 56 AVDD33 (power) "Analog Supply Voltage (3.3 V).", 57 AVDD33 (power) "Analog Supply Voltage (3.3 V).", 58 AVSS (power) "Analog Supply Common (0 V).", 61 AVSS (power) "Analog Supply Common (0 V).", 64 AVSS (power) "Analog Supply Common (0 V).", 67 AVSS (power) "Analog Supply Common (0 V).", 70 AVSS (power) "Analog Supply Common (0 V).", 71 AVDD33 (power) "Analog Supply Voltage (3.3 V).", 72 AVDD33 (power) "Analog Supply Voltage (3.3 V).", 73 EP (power) "Exposed Thermal Pad. Must be soldered to copper pour on top surface of PCB for mechanical stability and must be electrically tied to low impedance GND plane for low noise performance."

## AD9742ACPZ
designator U?
Single 12-Bit TxDAC, 210 Msps, -40 to +85 degC, CP-32-2, Pb-Free, Tray; Generic Part Number: AD9742; Manufacturer: Analog Devices; PartNumber: AD9742ACPZ; # DAC Outputs: 1; Max V+: 3.6V; Op Pwr Diss: 145mW; Resolution (Bits): 12; Settling Time: 11ns; Single Supply: NO; DatasheetVersion: Rev.B; PackageVersion: Jan-2005; PackageReference: CP-32-2; PackageDescription: 32-Lead Lead Frame Chip Scale Package [LFCSP_VQ] 5 x 5 mm Body, Very Thin Quad; Supplier 1: Digi-Key; Supplier Part Number 1: AD9742ACPZ-ND; Supplier 2: Farnell; Supplier Part Number 2: 2305698; Supplier 3: Newark; Supplier Part Number 3: 84W7490; Supplier 4: Newark; Supplier Part Number 4: 59K7341; Supplier 5: Mouser; Supplier Part Number 5: 584-AD9742ACPZ; Packing: Tray; RoHS: Y; Mounting Technology: Surface Mount; Code_JEDEC: MO-220-VHHD-2; ComponentLink1Description: Manufacturer URL; ComponentLink1URL: http://www.analog.com/en/index.html; ComponentLink2Description: Datasheet; ComponentLink2URL: http://www.analog.com/static/imported-files/data_sheets/AD9742.pdf; ComponentLink3Description: Package Specification; ComponentLink3URL: http://www.analog.com/static/imported-files/packages/414143737956480539664569CP_32_2.pdf; ComponentLink4Description: Product URL; ComponentLink4URL: http://www.analog.com/en/digital-to-analog-converters/da-converters/ad9742/products/product.html
footprint CP-32-2_N (QFN, 32-Leads, Body 5x5mm, Pitch 0.5mm, Thermal Pad 3.1x3.1mm, IPC Medium Density)
footprint CP-32-2_L (QFN, 32-Leads, Body 5x5mm, Pitch 0.5mm, Thermal Pad 3.1x3.1mm, IPC High Density)
footprint CP-32-2_M (QFN, 32-Leads, Body 5x5mm, Pitch 0.5mm, Thermal Pad 3.1x3.1mm, IPC Low Density)
pins: 1 DB5 (in) "Data Bit 5", 2 DB4 (in) "Data Bit 4", 3 DVDD (power) "Digital Supply Voltage (3.3 V).", 4 DB3 (in) "Data Bit 3", 5 DB2 (in) "Data Bit 2", 6 DB1 (in) "Data Bit 1", 7 DB0 (in) "Least Significant Data Bit (LSB).", 8 N/C "No Internal Connection.", 9 N/C "No Internal Connection.", 10 DCOM (power) "Digital Common.", 11 CLKVDD (power) "Clock Supply Voltage (3.3 V).", 12 CLK+ (in) "Differential Clock Input.", 13 CLK- (in) "Differential Clock Input.", 14 CLKCOM (power) "Clock Common.", 15 CMODE "Clock Mode Selection. Connect to CLKCOM for single-ended clock receiver (drive CLK+ and float CLK-). Connect to CLKVDD for differential receiver. Float for PECL receiver (terminations on-chip).", 16 MODE (in) "Selects Input Data Format. Connect to DCOM for straight binary, DVDD for twos complement.", 17 AVDD (power) "Analog Supply Voltage (3.3 V).", 18 AVDD (power) "Analog Supply Voltage (3.3 V).", 19 ACOM (power) "Analog Common.", 20 IOUTB (out) "Complementary DAC Current Output. Full-scale current when all data bits are 0s.", 21 IOUTA (out) "DAC Current Output. Full-scale current when all data bits are 1s.", 22 ACOM (power) "Analog Common.", 23 REFIO (io) "Reference Input/Output. Serves as reference input when internal reference disabled (i.e., tie REFLO to AVDD). Serves as 1.2 V reference output when internal reference activated (i.e., tie REFLO to ACOM). Requires 0.1 uF (See Datasheet)", 24 FSADJ (in) "Full-Scale Current Output Adjust.", 25 SLEEP (in) "Power-Down Control Input. Active high. Contains active pull-down circuit; it may be left unterminated if not used.", 26 DCOM (power) "Digital Common.", 27 DB11 (in) "Most Significant Data Bit (MSB).", 28 DB10 (in) "Data Bit 10", 29 DB9 (in) "Data Bit 9", 30 DB8 (in) "Data Bit 8", 31 DB7 (in) "Data Bit 7", 32 DB6 (in) "Data Bit 6", 33 EP "Exposed pad"

## AD9742ACPZRL7
designator U?
Single 12-Bit TxDAC, 210 Msps, -40 to +85 degC, CP-32-2, Pb-Free, Reel; Generic Part Number: AD9742; Manufacturer: Analog Devices; PartNumber: AD9742ACPZRL7; # DAC Outputs: 1; Max V+: 3.6V; Op Pwr Diss: 145mW; Resolution (Bits): 12; Settling Time: 11ns; Single Supply: NO; DatasheetVersion: Rev.B; PackageVersion: Jan-2005; PackageReference: CP-32-2; PackageDescription: 32-Lead Lead Frame Chip Scale Package [LFCSP_VQ] 5 x 5 mm Body, Very Thin Quad; Supplier 1: Digi-Key; Supplier Part Number 1: AD9742ACPZRL7-ND; Supplier 2: Mouser; Supplier Part Number 2: 584-AD9742ACPZR7; Packing: Reel; RoHS: Y; Mounting Technology: Surface Mount; Code_JEDEC: MO-220-VHHD-2; ComponentLink1Description: Manufacturer URL; ComponentLink1URL: http://www.analog.com/en/index.html; ComponentLink2Description: Datasheet; ComponentLink2URL: http://www.analog.com/static/imported-files/data_sheets/AD9742.pdf; ComponentLink3Description: Package Specification; ComponentLink3URL: http://www.analog.com/static/imported-files/packages/414143737956480539664569CP_32_2.pdf; ComponentLink4Description: Product URL; ComponentLink4URL: http://www.analog.com/en/digital-to-analog-converters/da-converters/ad9742/products/product.html
footprint CP-32-2_N (QFN, 32-Leads, Body 5x5mm, Pitch 0.5mm, Thermal Pad 3.1x3.1mm, IPC Medium Density)
footprint CP-32-2_L (QFN, 32-Leads, Body 5x5mm, Pitch 0.5mm, Thermal Pad 3.1x3.1mm, IPC High Density)
footprint CP-32-2_M (QFN, 32-Leads, Body 5x5mm, Pitch 0.5mm, Thermal Pad 3.1x3.1mm, IPC Low Density)
pins: 1 DB5 (in) "Data Bit 5", 2 DB4 (in) "Data Bit 4", 3 DVDD (power) "Digital Supply Voltage (3.3 V).", 4 DB3 (in) "Data Bit 3", 5 DB2 (in) "Data Bit 2", 6 DB1 (in) "Data Bit 1", 7 DB0 (in) "Least Significant Data Bit (LSB).", 8 N/C "No Internal Connection.", 9 N/C "No Internal Connection.", 10 DCOM (power) "Digital Common.", 11 CLKVDD (power) "Clock Supply Voltage (3.3 V).", 12 CLK+ (in) "Differential Clock Input.", 13 CLK- (in) "Differential Clock Input.", 14 CLKCOM (power) "Clock Common.", 15 CMODE "Clock Mode Selection. Connect to CLKCOM for single-ended clock receiver (drive CLK+ and float CLK-). Connect to CLKVDD for differential receiver. Float for PECL receiver (terminations on-chip).", 16 MODE (in) "Selects Input Data Format. Connect to DCOM for straight binary, DVDD for twos complement.", 17 AVDD (power) "Analog Supply Voltage (3.3 V).", 18 AVDD (power) "Analog Supply Voltage (3.3 V).", 19 ACOM (power) "Analog Common.", 20 IOUTB (out) "Complementary DAC Current Output. Full-scale current when all data bits are 0s.", 21 IOUTA (out) "DAC Current Output. Full-scale current when all data bits are 1s.", 22 ACOM (power) "Analog Common.", 23 REFIO (io) "Reference Input/Output. Serves as reference input when internal reference disabled (i.e., tie REFLO to AVDD). Serves as 1.2 V reference output when internal reference activated (i.e., tie REFLO to ACOM). Requires 0.1 uF (See Datasheet)", 24 FSADJ (in) "Full-Scale Current Output Adjust.", 25 SLEEP (in) "Power-Down Control Input. Active high. Contains active pull-down circuit; it may be left unterminated if not used.", 26 DCOM (power) "Digital Common.", 27 DB11 (in) "Most Significant Data Bit (MSB).", 28 DB10 (in) "Data Bit 10", 29 DB9 (in) "Data Bit 9", 30 DB8 (in) "Data Bit 8", 31 DB7 (in) "Data Bit 7", 32 DB6 (in) "Data Bit 6", 33 EP "Exposed pad"